# EAGLE library part ATTINY85 (library lolomolo)
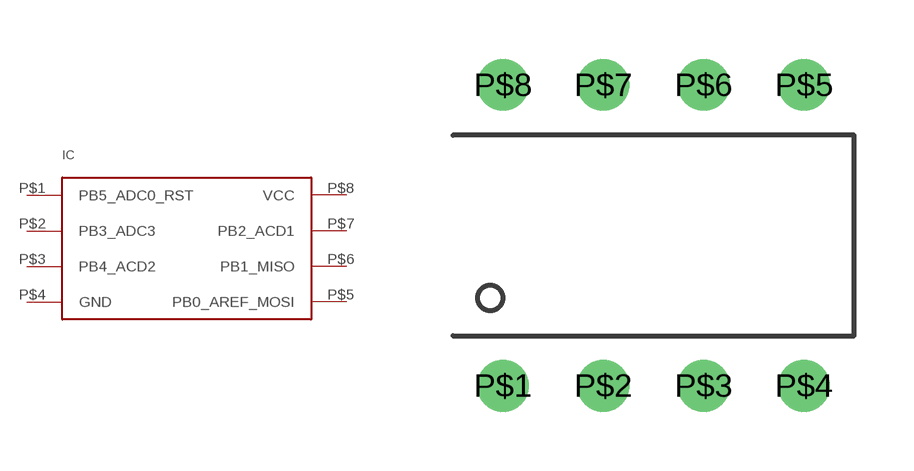
[diagram p1: symbol with the pads of DIP08; footprint DIP08]

Designator prefix IC

## ATTINY85  [DIP08]
P$1  PB5_ADC0_RST
P$2  PB3_ADC3
P$3  PB4_ACD2
P$4  GND
P$5  PB0_AREF_MOSI
P$6  PB1_MISO
P$7  PB2_ACD1
P$8  VCC

## Footprint DIP08 (pad centres in mm)
drill 0.8: P$1 -3.81,-3.81; P$2 -1.27,-3.81; P$3 1.27,-3.81; P$4 3.81,-3.81; P$5 3.81,3.81; P$6 1.27,3.81; P$7 -1.27,3.81; P$8 -3.81,3.81